# Altium integrated library Infineon_Power_IGBT.IntLib: 226 symbols (part 5 of 8)
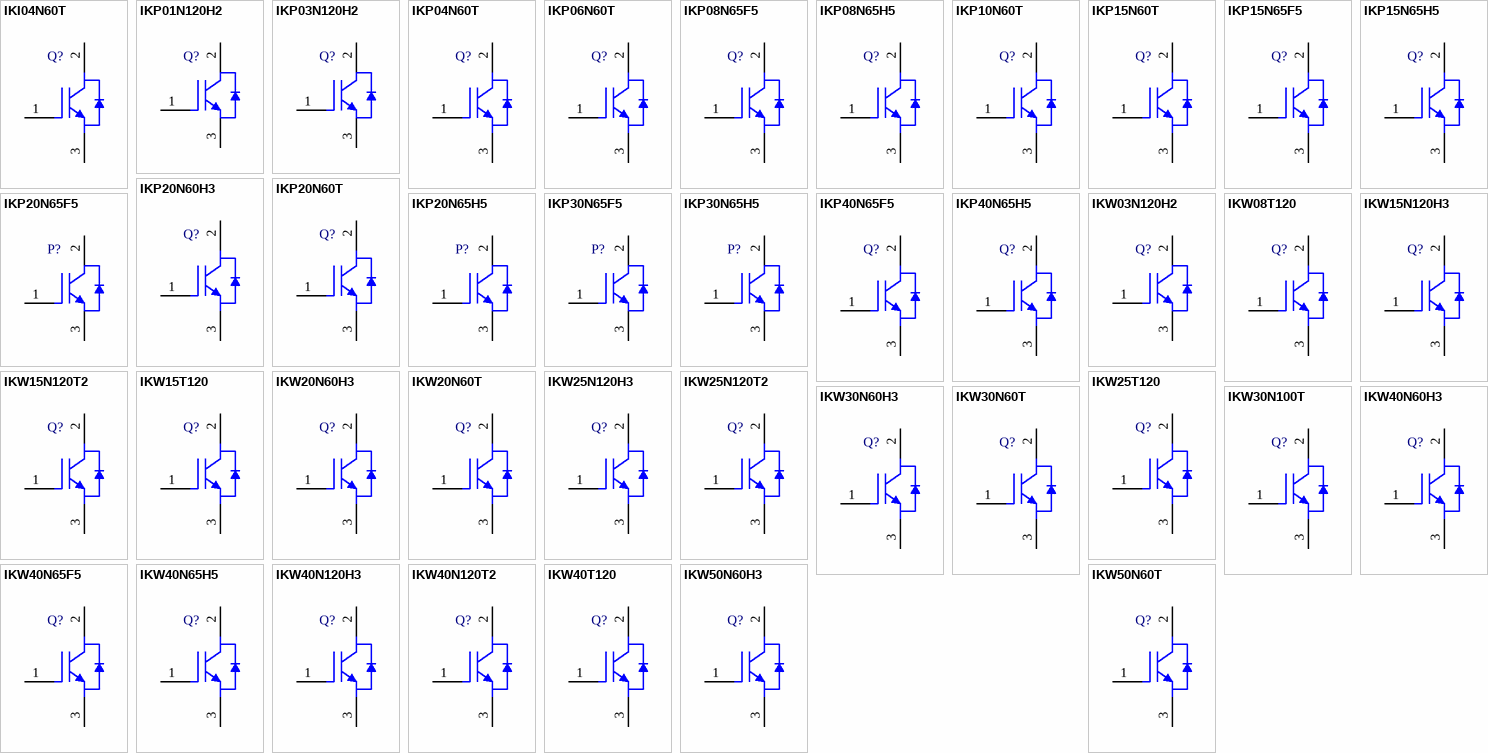
[diagram p9: symbols IKI04N60T to IKW50N60T]

## IKP15N65H5
designator Q?
650 V DuoPack IGBT and Diode High Speed Switching Series Fifth Generation, 30 A IC, PG-TO220-3-123, Tube, Green; Manufacturer: Infineon; PartNumber: IKP15N65H5; Green: TRUE; Group: IGBT with Anti-Parallel Diode; IC(max)@ 100degrees: 18 A; IC(max)@ 25degrees: 30 A; ICpuls(max): 45 A; Irrm (typ): 8 A; Ptot(max): 105 W; Switching Frequency: TRENCHSTOP5 10-120 kHz; VCE(max): 650 V; VCE(sat)(typ): 1.65 V; DatasheetVersion: Rev. 1.1; PackageReference: PG-TO220-3-123; PackageDescription: 3-Pin Plastic (Green) Transistor Single Outline Package, Body 15.65 x 10 mm, Pitch 2.54 mm; Supplier 1: Newark; Supplier Part Number 1: 33X0410; Supplier 2: Farnell; Supplier Part Number 2: 2363289; Halogen-free: TRUE; Packing: Tube; Mounting Technology: Through Hole; ComponentLink1Description: Manufacturer URL; ComponentLink1URL: http://www.infineon.com/; ComponentLink2Description: Datasheet; ComponentLink2URL: http://www.infineon.com/dgdl/DS_IKP15N65H5_1_1.pdf?folderId=db3a3043156fd5730115f56849b61941&fileId=db3a30433af5291e013afa3708e65ee0&location=en.Products.IGBTs.IGBT_with_Anti-Parallel_Diode.TRENCHSTOP_5.DATASHEET.DS_IKP15N65H5_1_1.pdf; ComponentLink3Description: Package Specification; ComponentLink3URL: http://www.infineon.com/cms/packages/Leaded_and_through-hole/P-PG-TO220/P-PG-TO220-3-123.html?__locale=en
footprint INF-PG-TO220-3-123_V (FM, 3-Leads, Body 10x9.25mm, Pitch 2.54mm, Recommended)
pins: 1 G, 2 C, 3 E

## IKP20N60H3
designator Q?
600 V High Speed Switching Series Third Generation, 40 A IC, -40 to 175 degC, PG-TO220-3-1, Tube, Green; Manufacturer: Infineon; PartNumber: IKP20N60H3; Eoff (typ): 0.24 mJ; Eon (typ): 0.45 mJ; Green: TRUE; IC(max) @ 100degrees: 20 A; IC(max) @ 25degrees: 40 A; ICpuls (max): 80 A; Irrm (typ): 11 A; QGate (typ): 120 nC; Qrr (typ): 390 nC; Switching Frequency: HighSpeed3 20-100kHz; td(off) (typ): 194 ns; td(on) (typ): 16 ns; tf (typ): 11 ns; tr (typ): 20 ns; VCE (max): 600 V; VCE(sat) (typ): 1.95 V; VF (typ): 1.65 V; DatasheetVersion: Rev. 1.1; PackageVersion: Jul-12; PackageReference: PG-TO220-3-1; PackageDescription: 3-Pin Plastic (Green) Transistor Single Outline Package, 10 x 9.25 mm Body, 2.54 mm Pitch; Supplier 1: Mouser; Supplier Part Number 1: 726-IKP20N60H3; Supplier 2: Digi-Key; Supplier Part Number 2: IKP20N60H3-ND; Halogen-free: TRUE; IF (max): 20 A; IFpuls (max): 80 A; Packing: Tube; Mounting Technology: Through Hole; ComponentLink1Description: Manufacturer URL; ComponentLink1URL: http://www.infineon.com/; ComponentLink2Description: Datasheet; ComponentLink2URL: http://www.infineon.com/dgdl/IKP20N60H3_rev1.1G.pdf?folderId=db3a30431c69a49d011c6f86019b00a1&fileId=db3a30432b16d655012b199c4f6a2d17; ComponentLink3Description: Package Specification; ComponentLink3URL: http://www.infineon.com/dgdl/BTS117_DS_14.pdf?folderId=db3a30431400ef68011421b54e2e0564&fileId=db3a30433a747525013abff8302d549c&location=en.Products.Automotive_ICs.Smart_High-_and_Low-Side_Switches.HITFET___TEMPFET__-_Smart_Low-Side_Switches.DATASHEET.BTS117_DS_14.pdf
footprint INF-PG-TO220-3-1 (FM, 3-Leads, Body 10x4.4mm, Pitch 2.54mm)
pins: 1 G, 2 C, 3 E

## IKP20N60T
designator Q?
600 V IGBT in TrenchStop and Fieldstop Technology with Soft, Fast Recovery Anti-Parallel EmCon HE Diode, 40 A IC, -40 to 175 degC , PG-TO220-3-1, Tube, Green; Manufacturer: Infineon; PartNumber: IKP20N60T; Eoff (typ): 0.46 mJ; Eon (typ): 0.31 mJ; Green: TRUE; Group: IGBT with Anti-Parallel Diode; IC(max) @ 100degrees: 20 A; IC(max) @ 25degrees: 40 A; ICpuls (max): 60 A; Irrm (typ): 13.3 A; Ptot (max): 166 W; QGate (typ): 120 nC; Qrr (typ): 0.31 uC; Switching Frequency: TRENCHSTOP 2-20kHz; td(off) (typ): 199 ns; td(on) (typ): 18 ns; tf (typ): 42 ns; tr (typ): 14 ns; VCE (max): 600 V; VCE(sat) (typ): 1.5 V; VF (typ): 1.65 V; DatasheetVersion: Rev. 2.5; PackageVersion: Jul-12; PackageReference: PG-TO220-3-1; PackageDescription: 3-Pin Plastic (Green) Transistor Single Outline Package, 10 x 9.25 mm Body, 2.54 mm Pitch; Supplier 1: Mouser; Supplier Part Number 1: 726-IKP20N60T; Supplier 2: Newark; Supplier Part Number 2: 61M6729; Supplier 3: Farnell; Supplier Part Number 3: 1471743; Supplier 4: Digi-Key; Supplier Part Number 4: IKP20N60T-ND; Halogen-free: TRUE; IF (max): 40 A; IFpuls (max): 60 A; Packing: Tube; Mounting Technology: Through Hole; ComponentLink1Description: Manufacturer URL; ComponentLink1URL: http://www.infineon.com/; ComponentLink2Description: Datasheet; ComponentLink2URL: http://www.infineon.com/dgdl/IKP_W20N60T+Rev2_5G.pdf?folderId=db3a304412b407950112b408e8c90004&fileId=db3a304412b407950112b428861a3e16; ComponentLink3Description: Package Specification; ComponentLink3URL: http://www.infineon.com/dgdl/BTS117_DS_14.pdf?folderId=db3a30431400ef68011421b54e2e0564&fileId=db3a30433a747525013abff8302d549c&location=en.Products.Automotive_ICs.Smart_High-_and_Low-Side_Switches.HITFET___TEMPFET__-_Smart_Low-Side_Switches.DATASHEET.BTS117_DS_14.pdf
footprint INF-PG-TO220-3-1 (FM, 3-Leads, Body 10x4.4mm, Pitch 2.54mm)
pins: 1 G, 2 C, 3 E

## IKP20N65F5
designator P?
DuoPack IGBT and Diode High Speed Switching Series Fifth Generation, 650 V VCE, PG-TO220-3, Tube, Green; Manufacturer: Infineon; PartNumber: IKP20N65F5; Eoff (typ): 0.06 mJ; Eon (typ): 0.16 mJ; Green: TRUE; IC(max) @ 100degrees: 21 A; IC(max) @ 25degrees: 42 A; ICpuls (max): 60 A; IF (max): 20 A; Irrm (typ): 10.5 A; P tot (max): 125 W; QGate (typ): 48 nC; Qrr (typ): 0.28 nC; td(off) (typ): 165 ns; td(on) (typ): 20 ns; tf (typ): 17 ns; tr (typ): 11 ns; VCE (max): 650 V; VCE(sat) (typ): 1.6 V; VF (typ): 1.45 V; DatasheetVersion: Rev. 2.1; PackageVersion: Rev. 05, 08/2007; PackageReference: PG-TO220-3-1_A; PackageDescription: 3-Pin Plastic (Green) Transistor Single Outline Package, 10.03 x 8.98 mm Body, 2.54 mm Pitch; Halogen-free: TRUE; IFpuls (max): 60 A; Packing: Tube; Mounting Technology: Through Hole; ComponentLink1Description: Manufacturer URL; ComponentLink1URL: http://www.infineon.com/; ComponentLink2Description: Datasheet; ComponentLink2URL: http://www.infineon.com/dgdl/IKP20N65F5_2_1.pdf?folderId=db3a3043156fd5730115f56849b61941&fileId=5546d461464245d30146a4e909416cdc; ComponentLink3Description: Package Specification; ComponentLink3URL: http://www.infineon.com/dgdl/IKP30N65H5_2_1.pdf?folderId=db3a3043156fd5730115f56849b61941&fileId=5546d461464245d30146a51a2ca36d28
footprint INF-PG-TO220-3-1_A_V (FM, 3-Leads, Body 10.03x8.98mm, Pitch 2.54mm)
pins: 1 G, 2 C, 3 E

## IKP20N65H5
designator P?
DuoPack IGBT and Diode High Speed Switching Series Fifth Generation, 650 V VCE, PG-TO220-3, Tube, Green; Manufacturer: Infineon; PartNumber: IKP20N65H5; Eoff (typ): 0.06 mJ; Eon (typ): 0.17 mJ; Green: TRUE; IC(max) @ 100degrees: 21 A; IC(max) @ 25degrees: 42 A; ICpuls (max): 60 A; IF (max): 20 A; Irrm (typ): 10.4 A; P tot (max): 125 W; QGate (typ): 48 nC; Qrr (typ): 0.27 nC; td(off) (typ): 156 ns; td(on) (typ): 18 ns; tf (typ): 13 ns; tr (typ): 8 ns; VCE (max): 650 V; VCE(sat) (typ): 1.65 V; VF (typ): 1.45 V; DatasheetVersion: Rev. 2.1; PackageVersion: Rev. 05, 08/2007; PackageReference: PG-TO220-3-1_A; PackageDescription: 3-Pin Plastic (Green) Transistor Single Outline Package, 10.03 x 8.98 mm Body, 2.54 mm Pitch; Halogen-free: TRUE; IFpuls (max): 60 A; Packing: Tube; Mounting Technology: Through Hole; ComponentLink1Description: Manufacturer URL; ComponentLink1URL: http://www.infineon.com/; ComponentLink2Description: Datasheet; ComponentLink2URL: http://www.infineon.com/dgdl/IKP20N65H5_2_1.pdf?folderId=db3a3043156fd5730115f56849b61941&fileId=5546d461464245d30146a500cc446cf4; ComponentLink3Description: Package Specification; ComponentLink3URL: http://www.infineon.com/dgdl/IKP30N65H5_2_1.pdf?folderId=db3a3043156fd5730115f56849b61941&fileId=5546d461464245d30146a51a2ca36d28
footprint INF-PG-TO220-3-1_A_V (FM, 3-Leads, Body 10.03x8.98mm, Pitch 2.54mm)
pins: 1 G, 2 C, 3 E

## IKP30N65F5
designator P?
DuoPack IGBT and Diode High Speed Switching Series Fifth Generation, 650 V VCE, PG-TO220-3, Tube, Green; Manufacturer: Infineon; PartNumber: IKP30N65F5; Eoff (typ): 0.07 mJ; Eon (typ): 0.28 mJ; Green: TRUE; IC(max) @ 100degrees: 35 A; IC(max) @ 25degrees: 55 A; ICpuls (max): 90 A; IF (max): 36 A; Irrm (typ): 14.4 A; P tot (max): 188 W; QGate (typ): 65 nC; Qrr (typ): 0.41 nC; td(off) (typ): 170 ns; td(on) (typ): 19 ns; tf (typ): 10 ns; tr (typ): 9 ns; VCE (max): 650 V; VCE(sat) (typ): 1.6 V; VF (typ): 1.35 V; DatasheetVersion: Rev. 2.1; PackageVersion: Rev. 05, 08/2007; PackageReference: PG-TO220-3-1_A; PackageDescription: 3-Pin Plastic (Green) Transistor Single Outline Package, 10.03 x 8.98 mm Body, 2.54 mm Pitch; Halogen-free: TRUE; IFpuls (max): 90 A; Packing: Tube; Mounting Technology: Through Hole; ComponentLink1Description: Manufacturer URL; ComponentLink1URL: http://www.infineon.com/; ComponentLink2Description: Datasheet; ComponentLink2URL: http://www.infineon.com/dgdl/IKP30N65F5_2_1.pdf?folderId=db3a3043156fd5730115f56849b61941&fileId=5546d461464245d30146a51147116d12; ComponentLink3Description: Package Specification; ComponentLink3URL: http://www.infineon.com/dgdl/IKP30N65H5_2_1.pdf?folderId=db3a3043156fd5730115f56849b61941&fileId=5546d461464245d30146a51a2ca36d28
footprint INF-PG-TO220-3-1_A_V (FM, 3-Leads, Body 10.03x8.98mm, Pitch 2.54mm)
pins: 1 G, 2 C, 3 E

## IKP30N65H5
designator P?
DuoPack IGBT and Diode High Speed Switching Series Fifth Generation, 650 V VCE, PG-TO220-3, Tube, Green; Manufacturer: Infineon; PartNumber: IKP30N65H5; Eoff (typ): 0.1 mJ; Eon (typ): 0.28 mJ; Green: TRUE; IC(max) @ 100degrees: 35 A; IC(max) @ 25degrees: 55 A; ICpuls (max): 90 A; IF (max): 36 A; Irrm (typ): 14.3 A; P tot (max): 188 W; QGate (typ): 70 nC; Qrr (typ): 0.41 nC; td(off) (typ): 177 ns; td(on) (typ): 19 ns; tf (typ): 14 ns; tr (typ): 9 ns; VCE (max): 650 V; VCE(sat) (typ): 1.65 V; VF (typ): 1.35 V; DatasheetVersion: Rev. 2.1; PackageVersion: Rev. 05, 08/2007; PackageReference: PG-TO220-3-1_A; PackageDescription: 3-Pin Plastic (Green) Transistor Single Outline Package, 10.03 x 8.98 mm Body, 2.54 mm Pitch; Halogen-free: TRUE; IFpuls (max): 90 A; Packing: Tube; Mounting Technology: Through Hole; ComponentLink1Description: Manufacturer URL; ComponentLink1URL: http://www.infineon.com/; ComponentLink2Description: Datasheet; ComponentLink2URL: http://www.infineon.com/dgdl/IKP30N65H5_2_1.pdf?folderId=db3a3043156fd5730115f56849b61941&fileId=5546d461464245d30146a51a2ca36d28; ComponentLink3Description: Package Specification; ComponentLink3URL: http://www.infineon.com/dgdl/IKP30N65H5_2_1.pdf?folderId=db3a3043156fd5730115f56849b61941&fileId=5546d461464245d30146a51a2ca36d28
footprint INF-PG-TO220-3-1_A_V (FM, 3-Leads, Body 10.03x8.98mm, Pitch 2.54mm)
pins: 1 G, 2 C, 3 E

## IKP40N65F5
designator Q?
650 V DuoPack IGBT and Diode High Speed Switching Series Fifth Generation, 74 A IC, PG-TO220-3-123, Tube, Green; Manufacturer: Infineon; PartNumber: IKP40N65F5; Green: TRUE; Group: IGBT with Anti-Parallel Diode; IC(max)@ 100degrees: 46 A; IC(max)@ 25degrees: 74 A; ICpuls(max): 120 A; Irrm (typ): 12.4 A; Ptot(max): 255 W; Switching Frequency: TRENCHSTOP5 10-120 kHz; VCE(max): 650 V; VCE(sat)(typ): 1.6 V; DatasheetVersion: Rev. 1.1; PackageReference: PG-TO220-3-123; PackageDescription: 3-Pin Plastic (Green) Transistor Single Outline Package, Body 15.65 x 10 mm, Pitch 2.54 mm; Supplier 1: Newark; Supplier Part Number 1: 33X0411; Supplier 2: Farnell; Supplier Part Number 2: 2363291; Halogen-free: TRUE; Packing: Tube; Mounting Technology: Through Hole; ComponentLink1Description: Manufacturer URL; ComponentLink1URL: http://www.infineon.com/; ComponentLink2Description: Datasheet; ComponentLink2URL: http://www.infineon.com/dgdl/DS_IKP40N65F5_IKW40N65F5_1_1.pdf?folderId=db3a3043156fd5730115f56849b61941&fileId=db3a30433af5291e013afa60c5395f31&location=en.Products.IGBTs.IGBT_with_Anti-Parallel_Diode.TRENCHSTOP_5.DATASHEET.DS_IKP40N65F5_IKW40N65F5_1_1.pdf; ComponentLink3Description: Package Specification; ComponentLink3URL: http://www.infineon.com/cms/packages/Leaded_and_through-hole/P-PG-TO220/P-PG-TO220-3-123.html?__locale=en
footprint INF-PG-TO220-3-123_V (FM, 3-Leads, Body 10x9.25mm, Pitch 2.54mm, Recommended)
pins: 1 G, 2 C, 3 E

## IKP40N65H5
designator Q?
650 V DuoPack IGBT and Diode High Speed Switching Series Fifth Generation, 74 A IC, PG-TO220-3-123, Tube, Green; Manufacturer: Infineon; PartNumber: IKP40N65H5; Green: TRUE; Group: IGBT with Anti-Parallel Diode; IC(max)@ 100degrees: 46 A; IC(max)@ 25degrees: 74 A; ICpuls(max): 120 A; Irrm (typ): 12.5 A; Ptot(max): 255 W; Switching Frequency: TRENCHSTOP5 10-120 kHz; VCE(max): 650 V; VCE(sat)(typ): 1.65 V; DatasheetVersion: Rev. 1.1; PackageReference: PG-TO220-3-123; PackageDescription: 3-Pin Plastic (Green) Transistor Single Outline Package, Body 15.65 x 10 mm, Pitch 2.54 mm; Supplier 1: Newark; Supplier Part Number 1: 33X0412; Supplier 2: Farnell; Supplier Part Number 2: 2363292; Halogen-free: TRUE; Packing: Tube; Mounting Technology: Through Hole; ComponentLink1Description: Manufacturer URL; ComponentLink1URL: http://www.infineon.com/; ComponentLink2Description: Datasheet; ComponentLink2URL: http://www.infineon.com/dgdl/DS_IKP40N65H5_IKW40N65H5_1_1.pdf?folderId=db3a3043156fd5730115f56849b61941&fileId=db3a30433af5291e013afa8ba6fb6078&location=en.Products.IGBTs.IGBT_with_Anti-Parallel_Diode.TRENCHSTOP_5.DATASHEET.DS_IKP40N65H5_IKW40N65H5_1_1.pdf; ComponentLink3Description: Package Specification; ComponentLink3URL: http://www.infineon.com/cms/packages/Leaded_and_through-hole/P-PG-TO220/P-PG-TO220-3-123.html?__locale=en
footprint INF-PG-TO220-3-123_V (FM, 3-Leads, Body 10x9.25mm, Pitch 2.54mm, Recommended)
pins: 1 G, 2 C, 3 E

## IKW03N120H2
designator Q?
High Speed 2-Technology IGBT with Soft, Fast Recovery Anti-Parallel EmCon HE Diode, PG-TO-247-3, Tube, Green; Manufacturer: Infineon; PartNumber: IKW03N120H2; Green: TRUE; IC(max) @ 100 degC: 3.9 A; IC(max) @ 25 degC: 9.6 A; Switching Frequency: HighSpeed2 30-100 kHz; VCE (max): 1,200 V; VCE(sat) (typ): 2.2 V; DatasheetVersion: Rev. 2.5; PackageVersion: Rev. 03, 12/2007; PackageReference: PG-TO247-3; PackageDescription: 3-Pin Plastic (Green) Transistor Single Outline Package, 15.865 x 5.03 mm Body, 5.44 mm Pitch; Supplier 1: Mouser; Supplier Part Number 1: 726-IKW03N120H2; Supplier 2: Digi-Key; Supplier Part Number 2: IKW03N120H2-ND; Halogen-free: FALSE; Packing: Tube; Mounting Technology: Through Hole; ComponentLink1Description: Manufacturer URL; ComponentLink1URL: http://www.infineon.com/; ComponentLink2Description: Datasheet; ComponentLink2URL: http://www.infineon.com/dgdl/IKP_W03N120H2_Rev2_5G.pdf?folderId=db3a304412b407950112b408e8c90004&fileId=db3a304412b407950112b42857093dd3; ComponentLink3Description: Package Specification; ComponentLink3URL: http://www.infineon.com/dgdl/SKW30N60HS_Rev2_2G.pdf?folderId=db3a304412b407950112b408e8c90004&fileId=db3a304412b407950112b42862d43de6
footprint INF-PG-TO-247-3 (FM, 3-Leads, Body 15.865x5.03mm, Pitch 5.44mm)
pins: 1 G, 2 C, 3 E

## IKW08T120
designator Q?
1200 V IGBT in TrenchStop and Fieldstop Technology with Soft, Fast Recovery Anti-Parallel EmCon HE Diode, 16 A IC, -40 to 150 degC, PG-TO247-3, Tube, Green; Manufacturer: Infineon; PartNumber: IKW08T120; Eoff (typ): 0.7 mJ; Eon (typ): 0.67 mJ; Green: TRUE; Group: IGBT with Anti-Parallel Diode; IC(max) @ 100degrees: 8 A; IC(max) @ 25degrees: 16 A; ICpuls (max): 24 A; Irrm (typ): 13 A; Ptot (max): 70 W; QGate (typ): 53 nC; Qrr (typ): 1 uC; Switching Frequency: TRENCHSTOP 2-20kHz; td(off) (typ): 450 ns; td(on) (typ): 40 ns; tf (typ): 70 ns; tr (typ): 23 ns; VCE (max): 1,200 V; VCE(sat) (typ): 1.7 V; DatasheetVersion: Rev. 2.3; PackageVersion: Rev. 03, 12/2007; PackageReference: PG-TO247-3; PackageDescription: 3-Pin Plastic (Green) Transistor Single Outline Package, Body 20.96 x 15.865 mm, Pitch 5.44 mm; Supplier 1: Mouser; Supplier Part Number 1: 726-IKW08T120; Supplier 2: Newark; Supplier Part Number 2: 61M6730; Supplier 3: Farnell; Supplier Part Number 3: 1471744; Supplier 4: Digi-Key; Supplier Part Number 4: IKW08T120-ND; Halogen-free: available; IF (max): 16 A; IFpuls (max): 24 A; Packing: Tube; VF (typ): 1.7 V; Mounting Technology: Through Hole; ComponentLink1Description: Manufacturer URL; ComponentLink1URL: http://www.infineon.com/; ComponentLink2Description: Datasheet; ComponentLink2URL: http://www.infineon.com/dgdl/IKW08T120_Rev2_3.pdf?folderId=db3a304412b407950112b408e8c90004&fileId=db3a304412b407950112b42893233e29; ComponentLink3Description: Package Specification; ComponentLink3URL: http://www.infineon.com/dgdl/IKW15T120_Rev2G_3.pdf?folderId=db3a304412b407950112b408e8c90004&fileId=db3a304412b407950112b42896343e2d&location=en.Products.IGBTs.IGBT_with_Anti-Parallel_Diode.TRENCHSTOP__IGBT_for_Hard_Switching.DATASHEET.IKW15T120_Rev2G_3.pdf
footprint INF-PG-TO247-3_V (FM, 3-Leads, Body 20.96x15.865mm, Pitch 5.44mm, Recommended)
pins: 1 G, 2 C, 3 E

## IKW15N120H3
designator Q?
1200 V IGBT in Trench and Fieldstop Technology with Soft, Fast Recovery Anti-Parallel Diode, 30 A IC, -40 to 175 degC, PG-TO247-3-44, Tube, Green; Manufacturer: Infineon; PartNumber: IKW15N120H3; Eoff (typ): 0.45 mJ; Eon (typ): 1.1 mJ; Green: TRUE; IC(max) @ 100degrees: 15 A; IC(max) @ 25degrees: 30 A; ICpuls (max): 60 A; IF (max): 15 A; Irrm (typ): 7.7 A; QGate (typ): 75 nC; Qrr (typ): 0.8 uC; Switching Frequency: HighSpeed3 20-100kHz; td(off) (typ): 260 ns; td(on) (typ): 21 ns; tf (typ): 14 ns; tr (typ): 34 ns; VCE (max): 1,200 V; VCE(sat) (typ): 2.05 V; VF (typ): 2.4 V; DatasheetVersion: Rev. 1.2; PackageVersion: Rev. 03; PackageReference: PG-TO247-3-44; PackageDescription: 3-Pin Plastic (Green) Transistor Single Outline Package, 15.94 x 20.95 mm Body, 5.44 mm Pitch; Supplier 1: Mouser; Supplier Part Number 1: 726-IKW15N120H3; Supplier 2: Newark; Supplier Part Number 2: 79X1430; Supplier 3: Farnell; Supplier Part Number 3: 2432700; Supplier 4: Digi-Key; Supplier Part Number 4: IKW15N120H3-ND; Halogen-free: available; IFpuls (max): 60 A; Packing: Tube; Mounting Technology: Through Hole; ComponentLink1Description: Manufacturer URL; ComponentLink1URL: http://www.infineon.com/; ComponentLink2Description: Datasheet; ComponentLink2URL: http://www.infineon.com/dgdl/IKW15N120H3_Rev1_2G.pdf?folderId=db3a30431c69a49d011c6f86019b00a1&fileId=db3a304325305e6d01258df9167d3741; ComponentLink3Description: Package Specification; ComponentLink3URL: http://www.infineon.com/cms/packages/Leaded_and_through-hole/P-PG-TO247/P-PG-TO247-3-44.html?__locale=en
footprint INF-PG-TO247-3-44 (FM, 3-Leads, Body 5.02x15.94mm, Pitch 5.44mm)
pins: 1 G, 2 C, 3 E

## IKW15N120T2
designator Q?
1200 V IGBT in 2nd Generation TrenchStop Technology with Soft, Fast Recovery Anti-Parallel EmCon Diode, 30 A IC, -40 to 175 degC , PG-TO247-3, Tube, Green; Manufacturer: Infineon; PartNumber: IKW15N120T2; Eoff (typ): 0.8 mJ; Eon (typ): 1.25 mJ; Green: TRUE; Group: IGBT with Anti-Parallel Diode; IC(max) @ 100degrees: 15 A; IC(max) @ 25degrees: 30 A; ICpuls (max): 60 A; IF (max): 25 A; Irrm (typ): 10 A; Ptot (max): 235 W; QGate (typ): 93 nC; Qrr (typ): 1.3 uC; Switching Frequency: TRENCHSTOP2 2-20kHz; td(off) (typ): 362 ns; td(on) (typ): 32 ns; tf (typ): 95 ns; tr (typ): 25 ns; VCE (max): 1,200 V; VCE(sat) (typ): 1.7 V; VF (typ): 1.75 V; DatasheetVersion: Rev. 2.1; PackageVersion: Rev. 03, 12/2007; PackageReference: PG-TO247-3; PackageDescription: 3-Pin Plastic (Green) Transistor Single Outline Package, Body 20.96 x 15.865 mm, Pitch 5.44 mm; Supplier 1: Mouser; Supplier Part Number 1: 726-IKW15N120T2; Supplier 2: Digi-Key; Supplier Part Number 2: IKW15N120T2-ND; Halogen-free: available; IFpuls (max): 60 A; Packing: Tube; Mounting Technology: Through Hole; ComponentLink1Description: Manufacturer URL; ComponentLink1URL: http://www.infineon.com/; ComponentLink2Description: Datasheet; ComponentLink2URL: http://www.infineon.com/dgdl/IKW15N120T2_Rev2_1.pdf?folderId=db3a304412b407950112b408e8c90004&fileId=db3a304412b407950112b426d2d43acd&location=en.Products.IGBTs.IGBT_with_Anti-Parallel_Diode.TRENCHSTOP__IGBT_for_Hard_Switching.DATASHEET.IKW15N120T2_Rev2_1.pdf; ComponentLink3Description: Package Specification; ComponentLink3URL: http://www.infineon.com/dgdl/IKW15T120_Rev2G_3.pdf?folderId=db3a304412b407950112b408e8c90004&fileId=db3a304412b407950112b42896343e2d&location=en.Products.IGBTs.IGBT_with_Anti-Parallel_Diode.TRENCHSTOP__IGBT_for_Hard_Switching.DATASHEET.IKW15T120_Rev2G_3.pdf
footprint INF-PG-TO247-3_V (FM, 3-Leads, Body 20.96x15.865mm, Pitch 5.44mm, Recommended)
pins: 1 G, 2 C, 3 E

## IKW15T120
designator Q?
1200 V IGBT in TrenchStop and Fieldstop Technology with Soft, Fast Recovery Anti-Parallel EmCon HE Diode, 30 A IC, -40 to 150 degC, PG-TO247-3, Tube, Green; Manufacturer: Infineon; PartNumber: IKW15T120; Eoff (typ): 1.4 mJ; Eon (typ): 1.3 mJ; Green: TRUE; Group: IGBT with Anti-Parallel Diode; IC(max) @ 100degrees: 15 A; IC(max) @ 25degrees: 30 A; ICpuls (max): 45 A; Irrm (typ): 17 A; Ptot (max): 110 W; QGate (typ): 85 nC; Qrr (typ): 1.9 uC; Switching Frequency: TRENCHSTOP 2-20kHz; td(off) (typ): 520 ns; td(on) (typ): 50 ns; tf (typ): 60 ns; tr (typ): 30 ns; VCE (max): 1,200 V; VCE(sat) (typ): 1.7 V; DatasheetVersion: Rev. 2.3; PackageVersion: Rev. 03, 12/2007; PackageReference: PG-TO247-3; PackageDescription: 3-Pin Plastic (Green) Transistor Single Outline Package, Body 20.96 x 15.865 mm, Pitch 5.44 mm; Supplier 1: Mouser; Supplier Part Number 1: 726-IKW15T120; Supplier 2: Farnell; Supplier Part Number 2: 1471745; Supplier 3: Digi-Key; Supplier Part Number 3: IKW15T120-ND; Halogen-free: available; IF (max): 30 A; IFpuls (max): 45 A; Packing: Tube; VF (typ): 1.7 V; Mounting Technology: Through Hole; ComponentLink1Description: Manufacturer URL; ComponentLink1URL: http://www.infineon.com/; ComponentLink2Description: Datasheet; ComponentLink2URL: http://www.infineon.com/dgdl/IKW15T120_Rev2G_3.pdf?folderId=db3a304412b407950112b408e8c90004&fileId=db3a304412b407950112b42896343e2d&location=en.Products.IGBTs.IGBT_with_Anti-Parallel_Diode.TRENCHSTOP__IGBT_for_Hard_Switching.DATASHEET.IKW15T120_Rev2G_3.pdf; ComponentLink3Description: Package Specification; ComponentLink3URL: http://www.infineon.com/dgdl/IKW15T120_Rev2G_3.pdf?folderId=db3a304412b407950112b408e8c90004&fileId=db3a304412b407950112b42896343e2d&location=en.Products.IGBTs.IGBT_with_Anti-Parallel_Diode.TRENCHSTOP__IGBT_for_Hard_Switching.DATASHEET.IKW15T120_Rev2G_3.pdf
footprint INF-PG-TO247-3_V (FM, 3-Leads, Body 20.96x15.865mm, Pitch 5.44mm, Recommended)
pins: 1 G, 2 C, 3 E

## IKW20N60H3
designator Q?
600 V High Speed Switching Series Third Generation, 40 A IC, -40 to 175 degC, PG-TO247-3-44, Tube, Green; Manufacturer: Infineon; PartNumber: IKW20N60H3; Eoff (typ): 0.24 mJ; Eon (typ): 0.56 mJ; Green: TRUE; IC(max) @ 100degrees: 20 A; IC(max) @ 25degrees: 40 A; ICpuls (max): 80 A; Irrm (typ): 11 A; QGate (typ): 120 nC; Qrr (typ): 390 nC; Switching Frequency: HighSpeed3 20-100kHz; td(off) (typ): 194 ns; td(on) (typ): 17 ns; tf (typ): 11 ns; tr (typ): 23 ns; VCE (max): 600 V; VCE(sat) (typ): 1.95 V; VF (typ): 1.65 V; DatasheetVersion: Rev. 1.2; PackageVersion: Rev. 03; PackageReference: PG-TO247-3-44; PackageDescription: 3-Pin Plastic (Green) Transistor Single Outline Package, 15.94 x 20.95 mm Body, 5.44 mm Pitch; Supplier 1: Mouser; Supplier Part Number 1: 726-IKW20N60H3; Supplier 2: Newark; Supplier Part Number 2: 13T9446; Supplier 3: Farnell; Supplier Part Number 3: 1832341; Supplier 4: Digi-Key; Supplier Part Number 4: IKW20N60H3-ND; Halogen-free: FALSE; IF (max): 20 A; IFpuls (max): 80 A; Packing: Tube; Mounting Technology: Through Hole; ComponentLink1Description: Manufacturer URL; ComponentLink1URL: http://www.infineon.com/; ComponentLink2Description: Datasheet; ComponentLink2URL: http://www.infineon.com/dgdl/IKW20N60H3_Rev1_2G.pdf?folderId=db3a3043156fd5730115f56849b61941&fileId=db3a3043266237920126b8cf069f1f0a; ComponentLink3Description: Package Specification; ComponentLink3URL: http://www.infineon.com/cms/packages/Leaded_and_through-hole/P-PG-TO247/P-PG-TO247-3-44.html?__locale=en
footprint INF-PG-TO247-3-44 (FM, 3-Leads, Body 5.02x15.94mm, Pitch 5.44mm)
pins: 1 G, 2 C, 3 E

## IKW20N60T
designator Q?
600 V IGBT in TrenchStop and Fieldstop Technology with Soft, Fast Recovery Anti-Parallel EmCon HE Diode, 40 A IC, -40 to 175 degC, PG-TO247-3, Tube, Green; Manufacturer: Infineon; PartNumber: IKW20N60T; Eoff (typ): 0.46 mJ; Eon (typ): 0.31 mJ; Green: TRUE; Group: IGBT with Anti-Parallel Diode; IC(max) @ 100degrees: 20 A; IC(max) @ 25degrees: 40 A; ICpuls (max): 60 A; Irrm (typ): 13.3 A; Ptot (max): 166 W; QGate (typ): 120 nC; Qrr (typ): 0.31 uC; Switching Frequency: TRENCHSTOP 2-20kHz; td(off) (typ): 199 ns; td(on) (typ): 18 ns; tf (typ): 42 ns; tr (typ): 14 ns; VCE (max): 600 V; VCE(sat) (typ): 1.5 V; VF (typ): 1.65 V; DatasheetVersion: Rev. 2.5; PackageVersion: Rev. 03, 12/2007; PackageReference: PG-TO247-3; PackageDescription: 3-Pin Plastic (Green) Transistor Single Outline Package, Body 20.96 x 15.865 mm, Pitch 5.44 mm; Supplier 1: Mouser; Supplier Part Number 1: 726-IKW20N60T; Supplier 2: Digi-Key; Supplier Part Number 2: IKW20N60T-ND; Halogen-free: available; IF (max): 40 A; IFpuls (max): 60 A; Packing: Tube; Mounting Technology: Through Hole; ComponentLink1Description: Manufacturer URL; ComponentLink1URL: http://www.infineon.com/; ComponentLink2Description: Datasheet; ComponentLink2URL: http://www.infineon.com/dgdl/IKP_W20N60T+Rev2_5G.pdf?folderId=db3a304412b407950112b408e8c90004&fileId=db3a304412b407950112b428861a3e16; ComponentLink3Description: Package Specification; ComponentLink3URL: http://www.infineon.com/dgdl/IKW15T120_Rev2G_3.pdf?folderId=db3a304412b407950112b408e8c90004&fileId=db3a304412b407950112b42896343e2d&location=en.Products.IGBTs.IGBT_with_Anti-Parallel_Diode.TRENCHSTOP__IGBT_for_Hard_Switching.DATASHEET.IKW15T120_Rev2G_3.pdf
footprint INF-PG-TO247-3_V (FM, 3-Leads, Body 20.96x15.865mm, Pitch 5.44mm, Recommended)
pins: 1 G, 2 C, 3 E

## IKW25N120H3
designator Q?
1200 V IGBT in Trench and Fieldstop Technology with Soft, Fast Recovery Anti-Parallel Diode, 50 A IC, -40 to 175 degC, PG-TO247-3-44, Tube, Green; Manufacturer: Infineon; PartNumber: IKW25N120H3; Eoff (typ): 0.85 mJ; Eon (typ): 1.8 mJ; Green: TRUE; IC(max) @ 100degrees: 25 A; IC(max) @ 25degrees: 50 A; ICpuls (max): 100 A; Irrm (typ): 10.4 A; QGate (typ): 115 nC; Qrr (typ): 1,200 nC; Switching Frequency: HighSpeed3 20-100kHz; td(off) (typ): 277 ns; td(on) (typ): 27 ns; tf (typ): 17 ns; tr (typ): 41 ns; VCE (max): 1,200 V; VCE(sat) (typ): 2.05 V; VF (typ): 2.4 V; DatasheetVersion: Rev. 1.2; PackageVersion: Rev. 03; PackageReference: PG-TO247-3-44; PackageDescription: 3-Pin Plastic (Green) Transistor Single Outline Package, 15.94 x 20.95 mm Body, 5.44 mm Pitch; Supplier 1: Mouser; Supplier Part Number 1: 726-IKW25N120H3; Supplier 2: Newark; Supplier Part Number 2: 37T8082; Supplier 3: Farnell; Supplier Part Number 3: 1832350; Supplier 4: Digi-Key; Supplier Part Number 4: IKW25N120H3-ND; Halogen-free: available; IF (max): 25 A; IFpuls (max): 100 A; Packing: Tube; Mounting Technology: Through Hole; ComponentLink1Description: Manufacturer URL; ComponentLink1URL: http://www.infineon.com/; ComponentLink2Description: Datasheet; ComponentLink2URL: http://www.infineon.com/dgdl/IKW25N120H3_Rev1_2G.pdf?folderId=db3a30431c69a49d011c6f86019b00a1&fileId=db3a304325305e6d012591c1a4f67016; ComponentLink3Description: Package Specification; ComponentLink3URL: http://www.infineon.com/cms/packages/Leaded_and_through-hole/P-PG-TO247/P-PG-TO247-3-44.html?__locale=en
footprint INF-PG-TO247-3-44 (FM, 3-Leads, Body 5.02x15.94mm, Pitch 5.44mm)
pins: 1 G, 2 C, 3 E

## IKW25N120T2
designator Q?
1200 V IGBT in 2nd Generation TrenchStop with Soft, Fast Recovery Anti-Parallel EmCon Diode, 50 A IC, -40 to 175 degC, PG-TO247-3, Tube, Green; Manufacturer: Infineon; PartNumber: IKW25N120T2; Eoff (typ): 1.35 mJ; Eon (typ): 1.55 mJ; Green: TRUE; Group: IGBT with Anti-Parallel Diode; IC(max) @ 100degrees: 25 A; IC(max) @ 25degrees: 50 A; ICpuls (max): 100 A; IF (max): 40 A; Irrm (typ): 20 A; Ptot (max): 349 W; QGate (typ): 120 nC; Qrr (typ): 2.05 uC; Switching Frequency: TRENCHSTOP2 2-20kHz; td(off) (typ): 265 ns; td(on) (typ): 27 ns; tf (typ): 95 ns; tr (typ): 20 ns; VCE (max): 1,200 V; VCE(sat) (typ): 1.7 V; VF (typ): 1.65 V; DatasheetVersion: Rev. 2.1; PackageVersion: Rev. 03, 12/2007; PackageReference: PG-TO247-3; PackageDescription: 3-Pin Plastic (Green) Transistor Single Outline Package, Body 20.96 x 15.865 mm, Pitch 5.44 mm; Supplier 1: Mouser; Supplier Part Number 1: 726-IKW25N120T2; Supplier 2: Farnell; Supplier Part Number 2: 1832382; Supplier 3: Digi-Key; Supplier Part Number 3: IKW25N120T2-ND; Halogen-free: available; IFpuls (max): 100 A; Packing: Tube; Mounting Technology: Through Hole; ComponentLink1Description: Manufacturer URL; ComponentLink1URL: http://www.infineon.com/; ComponentLink2Description: Datasheet; ComponentLink2URL: http://www.infineon.com/dgdl/IKW25N120T2_Rev2_1.pdf?folderId=db3a304412b407950112b408e8c90004&fileId=db3a304412b407950112b426d5a63ad1&location=en.Products.IGBTs.IGBT_with_Anti-Parallel_Diode.TRENCHSTOP__IGBT_for_Hard_Switching.DATASHEET.IKW25N120T2_Rev2_1.pdf; ComponentLink3Description: Package Specification; ComponentLink3URL: http://www.infineon.com/dgdl/IKW15T120_Rev2G_3.pdf?folderId=db3a304412b407950112b408e8c90004&fileId=db3a304412b407950112b42896343e2d&location=en.Products.IGBTs.IGBT_with_Anti-Parallel_Diode.TRENCHSTOP__IGBT_for_Hard_Switching.DATASHEET.IKW15T120_Rev2G_3.pdf
footprint INF-PG-TO247-3_V (FM, 3-Leads, Body 20.96x15.865mm, Pitch 5.44mm, Recommended)
pins: 1 G, 2 C, 3 E

## IKW25T120
designator Q?
1200 V IGBT in TrenchStop and Fieldstop Technology with Soft, Fast Recovery Anti-Parallel EmCon HE Diode, 50 A IC, -40 to 150 degC, PG-TO247-3, Tube, Green; Manufacturer: Infineon; PartNumber: IKW25T120; Eoff (typ): 2.2 mJ; Eon (typ): 2 mJ; Green: TRUE; Group: IGBT with Anti-Parallel Diode; IC(max) @ 100degrees: 25 A; IC(max) @ 25degrees: 50 A; ICpuls (max): 75 A; Irrm (typ): 21 A; Ptot (max): 190 W; QGate (typ): 155 nC; Qrr (typ): 2.3 uC; Switching Frequency: TRENCHSTOP 2-20kHz; td(off) (typ): 560 ns; td(on) (typ): 50 ns; tf (typ): 70 ns; tr (typ): 30 ns; VCE (max): 1,200 V; VCE(sat) (typ): 1.7 V; DatasheetVersion: Rev. 2.2; PackageVersion: Rev. 03, 12/2007; PackageReference: PG-TO247-3; PackageDescription: 3-Pin Plastic (Green) Transistor Single Outline Package, Body 20.96 x 15.865 mm, Pitch 5.44 mm; Supplier 1: Mouser; Supplier Part Number 1: 726-IKW25T120; Supplier 2: Newark; Supplier Part Number 2: 61M6733; Supplier 3: Farnell; Supplier Part Number 3: 1471747; Supplier 4: Digi-Key; Supplier Part Number 4: IKW25T120-ND; Halogen-free: available; IF (max): 50 A; IFpuls (max): 75 A; Packing: Tube; VF (typ): 1.7 V; Mounting Technology: Through Hole; ComponentLink1Description: Manufacturer URL; ComponentLink1URL: http://www.infineon.com/; ComponentLink2Description: Datasheet; ComponentLink2URL: http://www.infineon.com/dgdl/IKW25T120_Rev2G_2.pdf?folderId=db3a304412b407950112b408e8c90004&fileId=db3a304412b407950112b42899373e31&location=en.Products.IGBTs.IGBT_with_Anti-Parallel_Diode.TRENCHSTOP__IGBT_for_Hard_Switching.DATASHEET.IKW25T120_Rev2G_2.pdf; ComponentLink3Description: Package Specification; ComponentLink3URL: http://www.infineon.com/dgdl/IKW15T120_Rev2G_3.pdf?folderId=db3a304412b407950112b408e8c90004&fileId=db3a304412b407950112b42896343e2d&location=en.Products.IGBTs.IGBT_with_Anti-Parallel_Diode.TRENCHSTOP__IGBT_for_Hard_Switching.DATASHEET.IKW15T120_Rev2G_3.pdf
footprint INF-PG-TO247-3_V (FM, 3-Leads, Body 20.96x15.865mm, Pitch 5.44mm, Recommended)
pins: 1 G, 2 C, 3 E

## IKW30N60H3
designator Q?
600 V High Speed Switching Series Third Generation, 60 A IC, -40 to 175 degC, PG-TO247-3-44, Tube, Green; Manufacturer: Infineon; PartNumber: IKW30N60H3; Eoff (typ): 0.44 mJ; Eon (typ): 0.94 mJ; Green: TRUE; IC(max) @ 100degrees: 30 A; IC(max) @ 25degrees: 60 A; ICpuls (max): 120 A; Irrm (typ): 12 A; QGate (typ): 165 nC; Qrr (typ): 320 nC; Switching Frequency: HighSpeed3 20-100kHz; td(off) (typ): 207 ns; td(on) (typ): 21 ns; tf (typ): 22 ns; tr (typ): 33 ns; VCE (max): 600 V; VCE(sat) (typ): 1.95 V; VF (typ): 1.65 V; DatasheetVersion: Rev. 1.2; PackageVersion: Rev. 03; PackageReference: PG-TO247-3-44; PackageDescription: 3-Pin Plastic (Green) Transistor Single Outline Package, 15.94 x 20.95 mm Body, 5.44 mm Pitch; Supplier 1: Mouser; Supplier Part Number 1: 726-IKW30N60H3; Supplier 2: Newark; Supplier Part Number 2: 13T9448; Supplier 3: Farnell; Supplier Part Number 3: 1832342; Supplier 4: Digi-Key; Supplier Part Number 4: IKW30N60H3-ND; Halogen-free: FALSE; IF (max): 30 A; IFpuls (max): 120 A; Packing: Tube; Mounting Technology: Through Hole; ComponentLink1Description: Manufacturer URL; ComponentLink1URL: http://www.infineon.com/; ComponentLink2Description: Datasheet; ComponentLink2URL: http://www.infineon.com/dgdl/IKW30N60H3_Rev1_2G.pdf?folderId=db3a3043156fd5730115f56849b61941&fileId=db3a3043266237920126bc80c5f041c9; ComponentLink3Description: Package Specification; ComponentLink3URL: http://www.infineon.com/cms/packages/Leaded_and_through-hole/P-PG-TO247/P-PG-TO247-3-44.html?__locale=en
footprint INF-PG-TO247-3-44 (FM, 3-Leads, Body 5.02x15.94mm, Pitch 5.44mm)
pins: 1 G, 2 C, 3 E

## IKW30N60T
designator Q?
600 V IGBT in TrenchStop and Fieldstop Technology with Soft, Fast Recovery Anti-Parallel EmCon HE Diode, 60 A IC, -40 to 175 degC , PG-TO247-3-21, Tube, Green; Manufacturer: Infineon; PartNumber: IKW30N60T; Eoff (typ): 0.77 mJ; Eon (typ): 0.69 mJ; Green: TRUE; Group: IGBT with Anti-Parallel Diode; IC(max) @ 100degrees: 30 A; IC(max) @ 25degrees: 60 A; ICpuls (max): 90 A; Irrm (typ): 16.3 A; Ptot (max): 187 W; QGate (typ): 167 nC; Qrr (typ): 0.92 uC; Switching Frequency: TRENCHSTOP 2-20kHz; td(off) (typ): 254 ns; td(on) (typ): 23 ns; tf (typ): 46 ns; tr (typ): 21 ns; VCE (max): 600 V; VCE(sat) (typ): 1.5 V; VF (typ): 1.65 V; DatasheetVersion: Rev. 2.3; PackageVersion: Oct-07; PackageReference: PG-TO247-3-21; PackageDescription: 3-Pin Plastic (Green) Transistor Single Outline Package, 15.87 x 20.96 mm Body, 5.44 mm Pitch; Supplier 1: Mouser; Supplier Part Number 1: 726-IKW30N60T; Supplier 2: Newark; Supplier Part Number 2: 61M6734; Supplier 3: Farnell; Supplier Part Number 3: 1471748; Supplier 4: Digi-Key; Supplier Part Number 4: IKW30N60T-ND; Halogen-free: available; IF (max): 60 A; IFpuls (max): 90 A; Packing: Tube; Mounting Technology: Through Hole; ComponentLink1Description: Manufacturer URL; ComponentLink1URL: http://www.infineon.com/; ComponentLink2Description: Datasheet; ComponentLink2URL: http://www.infineon.com/dgdl/IKW30N60T+Rev2_3G.pdf?folderId=db3a304412b407950112b408e8c90004&fileId=db3a304412b407950112b42889a63e1d; ComponentLink3Description: Package Specification; ComponentLink3URL: http://www.infineon.com/dgdl/DS_IK30N100T_1_1.pdf?folderId=db3a304412b407950112b408e8c90004&fileId=db3a304316f66ee80116f7b6e3920050&location=en.Products.IGBTs.IGBT_with_Anti-Parallel_Diode.TRENCHSTOP__IGBT_for_Hard_Switching.DATASHEET.DS_IK30N100T_1_1.pdf
footprint INF-PG-TO247-3-21 (FM, 3-Leads, Body 5.03x15.87mm, Pitch 5.44mm)
pins: 1 G, 2 C, 3 E

## IKW30N100T
designator Q?
1000 V IGBT in TrenchStop and Fieldstop Technology with Soft, Fast Recovery Anti-Parallel Diode, 60 A IC, -55 to 175 degC, PG-TO247-3-21, Tube, Green; Manufacturer: Infineon; PartNumber: IKW30N100T; Eoff (typ): 1.6 mJ; Eon (typ): 2.2 mJ; Green: TRUE; Group: IGBT with Anti-Parallel Diode; IC(max) @ 100degrees: 30 A; IC(max) @ 25degrees: 60 A; ICpuls (max): 90 A; Irrm (typ): 21 A; Ptot (max): 412 W; QGate (typ): 217 nC; Qrr (typ): 2.1 uC; Switching Frequency: TRENCHSTOP 2-20kHz; td(off) (typ): 535 ns; td(on) (typ): 33 ns; tf (typ): 34 ns; tr (typ): 21 ns; VCE (max): 1,000 V; VCE(sat) (typ): 1.55 V; VF (typ): 1.65 V; DatasheetVersion: Rev. 1.1; PackageVersion: Oct-07; PackageReference: PG-TO247-3-21; PackageDescription: 3-Pin Plastic (Green) Transistor Single Outline Package, 15.87 x 20.96 mm Body, 5.44 mm Pitch; Supplier 1: Mouser; Supplier Part Number 1: N/A; IF (max): 60 A; IFpuls (max): 90 A; Packing: Tube; Mounting Technology: Through Hole; ComponentLink1Description: Manufacturer URL; ComponentLink1URL: http://www.infineon.com/; ComponentLink2Description: Datasheet; ComponentLink2URL: http://www.infineon.com/dgdl/DS_IK30N100T_1_1.pdf?folderId=db3a304412b407950112b408e8c90004&fileId=db3a304316f66ee80116f7b6e3920050&location=en.Products.IGBTs.IGBT_with_Anti-Parallel_Diode.TRENCHSTOP__IGBT_for_Hard_Switching.DATASHEET.DS_IK30N100T_1_1.pdf; ComponentLink3Description: Package Specification; ComponentLink3URL: http://www.infineon.com/dgdl/DS_IK30N100T_1_1.pdf?folderId=db3a304412b407950112b408e8c90004&fileId=db3a304316f66ee80116f7b6e3920050&location=en.Products.IGBTs.IGBT_with_Anti-Parallel_Diode.TRENCHSTOP__IGBT_for_Hard_Switching.DATASHEET.DS_IK30N100T_1_1.pdf
footprint INF-PG-TO247-3-21 (FM, 3-Leads, Body 5.03x15.87mm, Pitch 5.44mm)
pins: 1 G, 2 C, 3 E

## IKW40N60H3
designator Q?
600 V DuoPack IGBT and Diode High Speed Switching Series Third Generation, 80 A IC, -40 to 175 degC, PG-TO247-3-44, Tube, Green; Manufacturer: Infineon; PartNumber: IKW40N60H3; Eoff (typ): 0.58 mJ; Eon (typ): 1.1 mJ; Green: TRUE; IC(max) @ 100degrees: 40 A; IC(max) @ 25degrees: 80 A; ICpuls (max): 160 A; IF (max): 40A; Irrm (typ): 13.6 A; QGate (typ): 223 nC; Qrr (typ): 0.81 uC; Switching Frequency: HighSpeed3 20-100kHz; td(off) (typ): 197 ns; td(on) (typ): 19 ns; tf (typ): 21 ns; tr (typ): 33 ns; VCE (max): 600 V; VCE(sat) (typ): 1.95 V; VF (typ): 1.65V; DatasheetVersion: Rev. 2.1; PackageVersion: Rev. 03; PackageReference: PG-TO247-3-44; PackageDescription: 3-Pin Plastic (Green) Transistor Single Outline Package, 15.94 x 20.95 mm Body, 5.44 mm Pitch; Supplier 1: Mouser; Supplier Part Number 1: 726-IKW40N60H3; Supplier 2: Digi-Key; Supplier Part Number 2: IKW40N60H3-ND; Halogen-free: available; IFpuls (max): 160 A; Packing: Tube; Mounting Technology: Through Hole; ComponentLink1Description: Manufacturer URL; ComponentLink1URL: http://www.infineon.com/; ComponentLink2Description: Datasheet; ComponentLink2URL: http://www.infineon.com/dgdl/IKW40N60H3_Rev2_1G.pdf?folderId=db3a3043156fd5730115f56849b61941&fileId=db3a3043293a15c401293aacb8b8002d; ComponentLink3Description: Package Specification; ComponentLink3URL: http://www.infineon.com/cms/packages/Leaded_and_through-hole/P-PG-TO247/P-PG-TO247-3-44.html?__locale=en
footprint INF-PG-TO247-3-44 (FM, 3-Leads, Body 5.02x15.94mm, Pitch 5.44mm)
pins: 1 G, 2 C, 3 E

## IKW40N65F5
designator Q?
650 V DuoPack IGBT and Diode High Speed Switching Series Fifth Generation, 74 A IC, PG-TO247-3-44, Tube, Green; Manufacturer: Infineon; PartNumber: IKW40N65F5; Green: TRUE; Group: IGBT with Anti-Parallel Diode; IC(max)@ 100degrees: 46 A; IC(max)@ 25degrees: 74 A; ICpuls(max): 120 A; Irrm (typ): 12.4 A; Ptot(max): 255 W; Switching Frequency: TRENCHSTOP5 10-120 kHz; VCE(max): 650 V; VCE(sat)(typ): 1.6 V; DatasheetVersion: Rev. 1.1; PackageVersion: Rev. 03; PackageReference: PG-TO247-3-44; PackageDescription: 3-Pin Plastic (Green) Transistor Single Outline Package, 15.94 x 20.95 mm Body, 5.44 mm Pitch; Supplier 1: Newark; Supplier Part Number 1: 33X0413; Supplier 2: Farnell; Supplier Part Number 2: 2363293; Halogen-free: available; Packing: Tube; Mounting Technology: Through Hole; ComponentLink1Description: Manufacturer URL; ComponentLink1URL: http://www.infineon.com/; ComponentLink2Description: Datasheet; ComponentLink2URL: http://www.infineon.com/dgdl/DS_IKP40N65F5_IKW40N65F5_1_1.pdf?folderId=db3a3043156fd5730115f56849b61941&fileId=db3a30433af5291e013afa60c5395f31&location=en.Products.IGBTs.IGBT_with_Anti-Parallel_Diode.TRENCHSTOP_5.DATASHEET.DS_IKP40N65F5_IKW40N65F5_1_1.pdf; ComponentLink3Description: Package Specification; ComponentLink3URL: http://www.infineon.com/cms/packages/Leaded_and_through-hole/P-PG-TO247/P-PG-TO247-3-44.html?__locale=en
footprint INF-PG-TO247-3-44 (FM, 3-Leads, Body 5.02x15.94mm, Pitch 5.44mm)
pins: 1 G, 2 C, 3 E

## IKW40N65H5
designator Q?
650 V DuoPack IGBT and Diode High Speed Switching Series Fifth Generation, 74 A IC, PG-TO247-3-44, Tube, Green; Manufacturer: Infineon; PartNumber: IKW40N65H5; Green: TRUE; Group: IGBT with Anti-Parallel Diode; IC(max)@ 100degrees: 46 A; IC(max)@ 25degrees: 74 A; ICpuls(max): 120 A; Irrm (typ): 12.5 A; Ptot(max): 255 W; Switching Frequency: TRENCHSTOP5 10-120 kHz; VCE(max): 650 V; VCE(sat)(typ): 1.65 V; DatasheetVersion: Rev. 1.1; PackageVersion: Rev. 03; PackageReference: PG-TO247-3-44; PackageDescription: 3-Pin Plastic (Green) Transistor Single Outline Package, 15.94 x 20.95 mm Body, 5.44 mm Pitch; Supplier 1: Newark; Supplier Part Number 1: 33X0414; Supplier 2: Farnell; Supplier Part Number 2: 2363294; Halogen-free: available; Packing: Tube; Mounting Technology: Through Hole; ComponentLink1Description: Manufacturer URL; ComponentLink1URL: http://www.infineon.com/; ComponentLink2Description: Datasheet; ComponentLink2URL: http://www.infineon.com/dgdl/DS_IKP40N65H5_IKW40N65H5_1_1.pdf?folderId=db3a3043156fd5730115f56849b61941&fileId=db3a30433af5291e013afa8ba6fb6078&location=en.Products.IGBTs.IGBT_with_Anti-Parallel_Diode.TRENCHSTOP_5.DATASHEET.DS_IKP40N65H5_IKW40N65H5_1_1.pdf; ComponentLink3Description: Package Specification; ComponentLink3URL: http://www.infineon.com/cms/packages/Leaded_and_through-hole/P-PG-TO247/P-PG-TO247-3-44.html?__locale=en
footprint INF-PG-TO247-3-44 (FM, 3-Leads, Body 5.02x15.94mm, Pitch 5.44mm)
pins: 1 G, 2 C, 3 E

## IKW40N120H3
designator Q?
1200 V IGBT in Trench and Fieldstop Technology with Soft, Fast Recovery Anti-Parallel Diode, 80 A IC, -40 to 175 degC, PG-TO247-3-44, Tube, Green; Manufacturer: Infineon; PartNumber: IKW40N120H3; Eoff (typ): 1.2 mJ; Eon (typ): 3.2 mJ; Green: TRUE; IC(max) @ 100degrees: 40 A; IC(max) @ 25degrees: 80 A; ICpuls (max): 160 A; IF (max): 40 A; Irrm (typ): 12.8 A; QGate (typ): 185 nC; Qrr (typ): 1.9 uC; Switching Frequency: HighSpeed3 20-100kHz; td(off) (typ): 290 ns; td(on) (typ): 30 ns; tf (typ): 16 ns; tr (typ): 57 ns; VCE (max): 1,200 V; VCE(sat) (typ): 2.05 V; VF (typ): 2.4 V; DatasheetVersion: Rev. 1.2; PackageVersion: Rev. 03; PackageReference: PG-TO247-3-44; PackageDescription: 3-Pin Plastic (Green) Transistor Single Outline Package, 15.94 x 20.95 mm Body, 5.44 mm Pitch; Supplier 1: Mouser; Supplier Part Number 1: 726-IKW40N120H3; Supplier 2: Newark; Supplier Part Number 2: 37T8083; Supplier 3: Farnell; Supplier Part Number 3: 1832351; Supplier 4: Digi-Key; Supplier Part Number 4: IKW40N120H3-ND; Halogen-free: available; IFpuls (max): 160 A; Packing: Tube; Mounting Technology: Through Hole; ComponentLink1Description: Manufacturer URL; ComponentLink1URL: http://www.infineon.com/; ComponentLink2Description: Datasheet; ComponentLink2URL: http://www.infineon.com/dgdl/IKW40N120H3_Rev1_2G.pdf?folderId=db3a30431c69a49d011c6f86019b00a1&fileId=db3a304325305e6d012591d4832f7032; ComponentLink3Description: Package Specification; ComponentLink3URL: http://www.infineon.com/cms/packages/Leaded_and_through-hole/P-PG-TO247/P-PG-TO247-3-44.html?__locale=en
footprint INF-PG-TO247-3-44 (FM, 3-Leads, Body 5.02x15.94mm, Pitch 5.44mm)
pins: 1 G, 2 C, 3 E

## IKW40N120T2
designator Q?
1200 V IGBT in 2nd Generation TrenchStop with Soft, Fast Recovery Anti-Parallel EmCon Diode, 75 A IC, -40 to 175 degC, PG-TO247-3, Tube, Green; Manufacturer: Infineon; PartNumber: IKW40N120T2; Eoff (typ): 2.05 mJ; Eon (typ): 3.2 mJ; Green: TRUE; Group: IGBT with Anti-Parallel Diode; IC(max) @ 100degrees: 40 A; IC(max) @ 25degrees: 75 A; ICpuls (max): 160 A; Irrm (typ): 23 A; Ptot (max): 480 W; QGate (typ): 192 nC; Qrr (typ): 3.3 uC; Switching Frequency: TRENCHSTOP2 2-20kHz; td(off) (typ): 314 ns; td(on) (typ): 33 ns; tf (typ): 94 ns; tr (typ): 28 ns; VCE (max): 1,200 V; VCE(sat) (typ): 1.75 V; DatasheetVersion: Rev. 2.2; PackageVersion: Rev. 03, 12/2007; PackageReference: PG-TO247-3; PackageDescription: 3-Pin Plastic (Green) Transistor Single Outline Package, Body 20.96 x 15.865 mm, Pitch 5.44 mm; Supplier 1: Mouser; Supplier Part Number 1: 726-IKW40N120T2; Supplier 2: Digi-Key; Supplier Part Number 2: IKW40N120T2-ND; Halogen-free: available; IF (max): 75 A; IFpuls (max): 160 A; Packing: Tube; VF (typ): 1.75 V; Mounting Technology: Through Hole; ComponentLink1Description: Manufacturer URL; ComponentLink1URL: http://www.infineon.com/; ComponentLink2Description: Datasheet; ComponentLink2URL: http://www.infineon.com/dgdl/IKW40N120T2_Rev2_2.pdf?folderId=db3a304412b407950112b408e8c90004&fileId=db3a304412b407950112b426d87b3ad5&location=en.Products.IGBTs.IGBT_with_Anti-Parallel_Diode.TRENCHSTOP__IGBT_for_Hard_Switching.DATASHEET.IKW40N120T2_Rev2_2.pdf; ComponentLink3Description: Package Specification; ComponentLink3URL: http://www.infineon.com/dgdl/IKW15T120_Rev2G_3.pdf?folderId=db3a304412b407950112b408e8c90004&fileId=db3a304412b407950112b42896343e2d&location=en.Products.IGBTs.IGBT_with_Anti-Parallel_Diode.TRENCHSTOP__IGBT_for_Hard_Switching.DATASHEET.IKW15T120_Rev2G_3.pdf
footprint INF-PG-TO247-3_V (FM, 3-Leads, Body 20.96x15.865mm, Pitch 5.44mm, Recommended)
pins: 1 G, 2 C, 3 E

## IKW40T120
designator Q?
1200 V IGBT in TrenchStop and Fieldstop Technology with Soft, Fast Recovery Anti-Parallel EmCon HE Diode, 75 A IC, -40 to 150 degC, PG-TO247-3, Tube, Green; Manufacturer: Infineon; PartNumber: IKW40T120; Eoff (typ): 3.2 mJ; Eon (typ): 3.3 mJ; Green: TRUE; Group: IGBT with Anti-Parallel Diode; IC(max) @ 100degrees: 40 A; IC(max) @ 25degrees: 75 A; ICpuls (max): 105 A; IF (max): 80 A; Irrm (typ): 28 A; Ptot (max): 270 W; QGate (typ): 203 nC; Qrr (typ): 3.8 uC; Switching Frequency: TRENCHSTOP 2-20kHz; td(off) (typ): 480 ns; td(on) (typ): 48 ns; tf (typ): 70 ns; tr (typ): 34 ns; VCE (max): 1,200 V; VCE(sat) (typ): 1.7 V; VF (typ): 1.75 V; DatasheetVersion: Rev. 2.2; PackageVersion: Rev. 03, 12/2007; PackageReference: PG-TO247-3; PackageDescription: 3-Pin Plastic (Green) Transistor Single Outline Package, Body 20.96 x 15.865 mm, Pitch 5.44 mm; Supplier 1: Mouser; Supplier Part Number 1: 726-IKW40T120; Supplier 2: Newark; Supplier Part Number 2: 61M6735; Supplier 3: Farnell; Supplier Part Number 3: 1471749; Supplier 4: Digi-Key; Supplier Part Number 4: IKW40T120-ND; Halogen-free: available; IFpuls (max): 105 A; Packing: Tube; Mounting Technology: Through Hole; ComponentLink1Description: Manufacturer URL; ComponentLink1URL: http://www.infineon.com/; ComponentLink2Description: Datasheet; ComponentLink2URL: http://www.infineon.com/dgdl/IKW40T120_Rev_2G_2.pdf?folderId=db3a304412b407950112b408e8c90004&fileId=db3a304412b407950112b4289c3b3e35&location=en.Products.IGBTs.IGBT_with_Anti-Parallel_Diode.TRENCHSTOP__IGBT_for_Hard_Switching.DATASHEET.IKW40T120_Rev_2G_2.pdf; ComponentLink3Description: Package Specification; ComponentLink3URL: http://www.infineon.com/dgdl/IKW15T120_Rev2G_3.pdf?folderId=db3a304412b407950112b408e8c90004&fileId=db3a304412b407950112b42896343e2d&location=en.Products.IGBTs.IGBT_with_Anti-Parallel_Diode.TRENCHSTOP__IGBT_for_Hard_Switching.DATASHEET.IKW15T120_Rev2G_3.pdf
footprint INF-PG-TO247-3_V (FM, 3-Leads, Body 20.96x15.865mm, Pitch 5.44mm, Recommended)
pins: 1 G, 2 C, 3 E

## IKW50N60H3
designator Q?
600 V High Speed Switching Series Third Generation, 100 A IC, -40 to 175 degC, PG-TO247-3-44, Tube, Green; Manufacturer: Infineon; PartNumber: IKW50N60H3; Eoff (typ): 0.91 mJ; Eon (typ): 1.45 mJ; Green: TRUE; IC(max) @ 100degrees: 50 A; IC(max) @ 25degrees: 100 A; ICpuls (max): 200 A; IF (max): 60 A; Irrm (typ): 16.9 A; QGate (typ): 315 nC; Qrr (typ): 0.88 uC; Switching Frequency: HighSpeed3 20-100kHz; td(off) (typ): 235 ns; td(on) (typ): 23 ns; tf (typ): 24 ns; tr (typ): 37 ns; VCE (max): 600 V; VCE(sat) (typ): 1.85 V; VF (typ): 1.65 V; DatasheetVersion: Rev. 1.1; PackageVersion: Rev. 03; PackageReference: PG-TO247-3-44; PackageDescription: 3-Pin Plastic (Green) Transistor Single Outline Package, 15.94 x 20.95 mm Body, 5.44 mm Pitch; Supplier 1: Mouser; Supplier Part Number 1: 726-IKW50N60H3; Supplier 2: Digi-Key; Supplier Part Number 2: IKW50N60H3-ND; Halogen-free: TRUE; IFpuls (max): 200 A; Packing: Tube; Mounting Technology: Through Hole; ComponentLink1Description: Manufacturer URL; ComponentLink1URL: http://www.infineon.com/; ComponentLink2Description: Datasheet; ComponentLink2URL: http://www.infineon.com/dgdl/IKW50N60H3_Rev1_1G.pdf?folderId=db3a3043156fd5730115f56849b61941&fileId=db3a30432a40a650012a47934b1e2bea; ComponentLink3Description: Package Specification; ComponentLink3URL: http://www.infineon.com/cms/packages/Leaded_and_through-hole/P-PG-TO247/P-PG-TO247-3-44.html?__locale=en
footprint INF-PG-TO247-3-44 (FM, 3-Leads, Body 5.02x15.94mm, Pitch 5.44mm)
pins: 1 G, 2 C, 3 E